# Altium footprint library DXPpcb.PCBLIB: 575 footprints (part 8 of 36)
Each footprint in its own frame and in the unit in brackets; x right, y up, seen from the top. Pads: shape width x height; smd on the part's side, far side on the other; paste and mask are expansions set on the pad; w line width, h text height; cw(c..) or ccw(c..) is an arc to the next point about the centre after c.
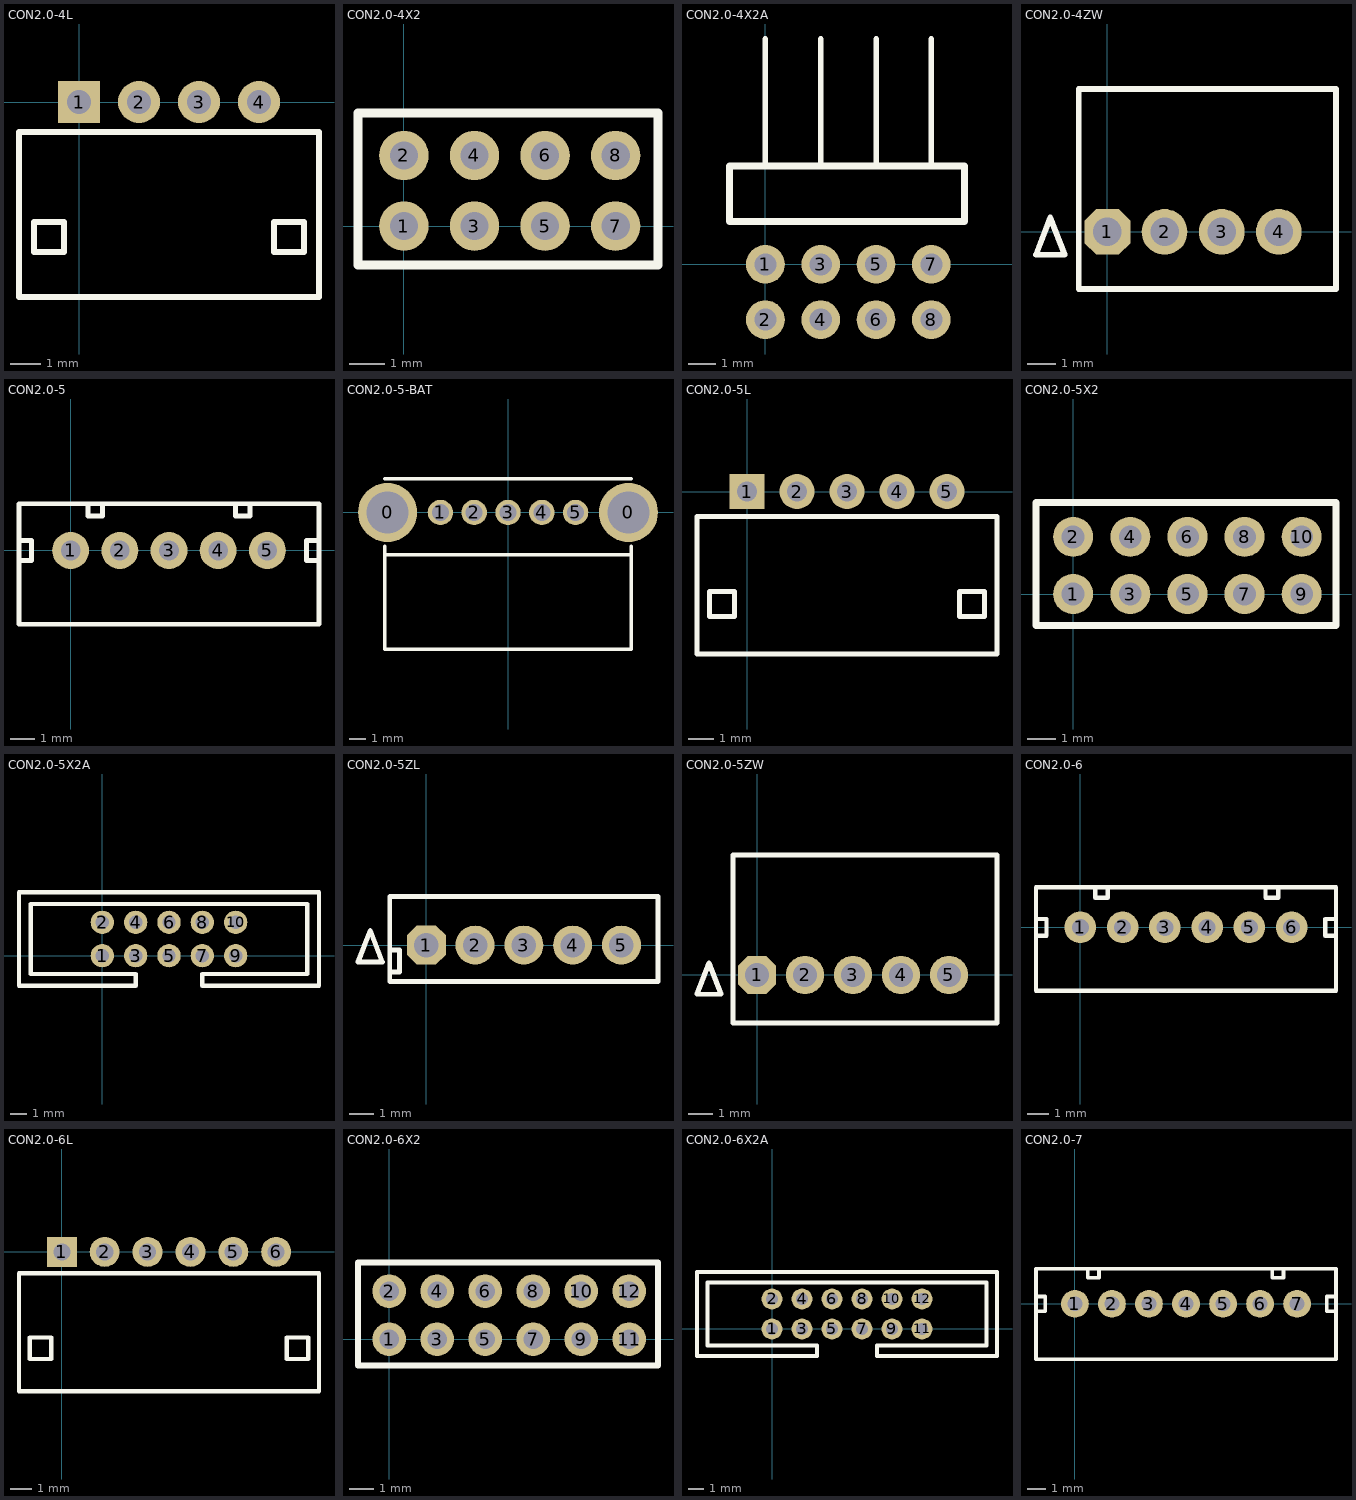
[diagram p7: the footprints below, top view; thin cyan lines are the x and y axes]

## CON2.0-4L [mm]
pads (4):
  rect 1.4x1.4 hole 0.8: 1(0,0)
  round 1.4 hole 0.8: 2(2,0) 3(4,0) 4(6,0)
TopOverlay:
  lines w0.2: -2,-6.5 8,-6.5 8,-1 -2,-1 -2,-3.5 -2,-6.5 ; -1.5,-5 -1.5,-4 -0.5,-4 -0.5,-5 -1.5,-5 ; 6.5,-5 7.5,-5 7.5,-4 6.5,-4 6.5,-5

## CON2.0-4X2 [mm]
pads (8):
  round 1.4 hole 0.8: 1(0,0) 2(0,2) 3(2,0) 4(2,2) 5(4,0) 6(4,2) 7(6,0) 8(6,2)
TopOverlay:
  lines w0.254: -1.3,-1.1 7.2,-1.1 7.2,3.2 -1.3,3.2 -1.3,-1.1

## CON2.0-4X2A [mm]
pads (8):
  round 1.4 hole 0.8: 1(0,0) 2(0,-2) 3(2,0) 4(2,-2) 5(4,0) 6(4,-2) 7(6,0) 8(6,-2)
TopOverlay:
  lines w0.2: 0,3.55 0,8.15 ; 2,3.55 2,8.15 ; 4,3.55 4,8.15 ; 6,3.55 6,8.15
  lines w0.254: -1.3,1.55 7.2,1.55 7.2,3.55 -1.3,3.55 -1.3,1.55

## CON2.0-4ZW [mm]
pads (4):
  oct 1.6x1.6 hole 1: 1(0,0)
  round 1.6 hole 1: 2(2,0) 3(4,0) 4(6,0)
TopOverlay:
  lines w0.2: -2.5,-0.8 -2,0.5 -1.5,-0.8 -2.5,-0.8 ; -1,-2 -1,5 8,5 8,-2 -1,-2

## CON2.0-5 [mm]
pads (5):
  round 1.5 hole 0.8: 1(0,0) 2(2,0) 3(4,0) 4(6,0) 5(8,0)
TopOverlay:
  lines w0.2: -2.1,-0.4 -1.6,-0.4 -1.6,0.4 -2.1,0.4 ; 0.7,1.9 0.7,1.4 1.3,1.4 1.3,1.9 ; 6.7,1.9 6.7,1.4 7.3,1.4 7.3,1.9 ; 10.1,-0.4 9.6,-0.4 9.6,0.4 10.1,0.4 ; -2.1,-3 -2.1,1.9 10.1,1.9 10.1,-3 -2.1,-3

## CON2.0-5-BAT [mm]
pads (7):
  round 3.5 hole 2.5: 0(-7.125,0) 0(7.125,0)
  round 1.5 hole 1: 1(-4,0) 2(-2,0) 3(0,0) 4(2,0) 5(4,0)
TopOverlay:
  lines w0.2: -7.3,-2.5 7.3,-2.5 ; -7.3,-2 -7.3,-8.1 7.3,-8.1 7.3,-2 ; -7.3,2 7.3,2

## CON2.0-5L [mm]
pads (5):
  rect 1.4x1.4 hole 0.8: 1(0,0)
  round 1.4 hole 0.8: 2(2,0) 3(4,0) 4(6,0) 5(8,0)
TopOverlay:
  lines w0.2: -2,-6.5 10,-6.5 10,-1 -2,-1 -2,-2.8 -2,-6.5 ; -1.5,-5 -0.5,-5 -0.5,-4 -1.5,-4 -1.5,-5 ; 8.5,-5 9.5,-5 9.5,-4 8.5,-4 8.5,-5

## CON2.0-5X2 [mm]
pads (10):
  round 1.4 hole 0.8: 1(0,0) 2(0,2) 3(2,0) 4(2,2) 5(4,0) 6(4,2) 7(6,0) 8(6,2) 9(8,0) 10(8,2)
TopOverlay:
  lines w0.254: -1.3,-1.1 9.2,-1.1 9.2,3.2 -1.3,3.2 -1.3,-1.1

## CON2.0-5X2A [mm]
pads (10):
  round 1.4 hole 0.8: 1(0,0) 2(0,2) 3(2,0) 4(2,2) 5(4,0) 6(4,2) 7(6,0) 8(6,2) 9(8,0) 10(8,2)
TopOverlay:
  lines w0.254: -5,-1.8 2,-1.8 2,-1.1 -4.3,-1.1 -4.3,3.1 12.3,3.1 12.3,-1.1 6,-1.1 6,-1.8 13,-1.8 13,3.8 -5,3.8 -5,-1.8

## CON2.0-5ZL [mm]
pads (5):
  oct 1.6x1.6 hole 1: 1(0,0)
  round 1.6 hole 1: 2(2,0) 3(4,0) 4(6,0) 5(8,0)
TopOverlay:
  lines w0.2: -1.5,-1.1 -1.1,-1.1 -1.1,-0.2 -1.5,-0.2 ; -2.8,-0.7 -1.8,-0.7 -2.3,0.6 -2.8,-0.7 ; -1.5,-1.5 9.5,-1.5 9.5,2 -1.5,2 -1.5,-1.5

## CON2.0-5ZW [mm]
pads (5):
  oct 1.6x1.6 hole 1: 1(0,0)
  round 1.6 hole 1: 2(2,0) 3(4,0) 4(6,0) 5(8,0)
TopOverlay:
  lines w0.2: -2.5,-0.8 -1.5,-0.8 -2,0.5 -2.5,-0.8 ; -1,-2 10,-2 10,5 -1,5 -1,-2

## CON2.0-6 [mm]
pads (6):
  round 1.5 hole 0.8: 1(0,0) 2(2,0) 3(4,0) 4(6,0) 5(8,0) 6(10,0)
TopOverlay:
  lines w0.2: -2.1,-0.4 -1.6,-0.4 -1.6,0.4 -2.1,0.4 ; 0.7,1.9 0.7,1.4 1.3,1.4 1.3,1.9 ; 8.764,1.9 8.764,1.4 9.364,1.4 9.364,1.9 ; 12.096,-3 12.096,1.9 ; 12.096,-0.4 11.596,-0.4 11.596,0.4 12.096,0.4 ; 12.1,-3 -2.1,-3 -2.1,1.9 12.1,1.9

## CON2.0-6L [mm]
pads (6):
  rect 1.4x1.4 hole 0.8: 1(0,0)
  round 1.4 hole 0.8: 2(2,0) 3(4,0) 4(6,0) 5(8,0) 6(10,0)
TopOverlay:
  lines w0.2: -2,-6.5 -2,-3.5 -2,-1 12,-1 12,-6.5 -2,-6.5 ; -1.5,-5 -0.5,-5 -0.5,-4 -1.5,-4 -1.5,-5 ; 10.5,-5 11.5,-5 11.5,-4 10.5,-4 10.5,-5

## CON2.0-6X2 [mm]
pads (12):
  round 1.4 hole 0.8: 1(0,0) 2(0,2) 3(2,0) 4(2,2) 5(4,0) 6(4,2) 7(6,0) 8(6,2) 9(8,0) 10(8,2) 11(10,0) 12(10,2)
TopOverlay:
  lines w0.254: -1.3,-1.1 11.2,-1.1 11.2,3.2 -1.3,3.2 -1.3,-1.1

## CON2.0-6X2A [mm]
pads (12):
  round 1.4 hole 0.8: 1(0,0) 2(0,2) 3(2,0) 4(2,2) 5(4,0) 6(4,2) 7(6,0) 8(6,2) 9(8,0) 10(8,2) 11(10,0) 12(10,2)
TopOverlay:
  lines w0.254: -5,-1.8 3,-1.8 3,-1.1 -4.3,-1.1 -4.3,3.1 14.3,3.1 14.3,-1.1 7,-1.1 7,-1.8 15,-1.8 15,3.8 -5,3.8 -5,-1.8

## CON2.0-7 [mm]
pads (7):
  round 1.5 hole 0.8: 1(0,0) 2(2,0) 3(4,0) 4(6,0) 5(8,0) 6(10,0) 7(12,0)
TopOverlay:
  lines w0.2: -2.1,-0.4 -1.6,-0.4 -1.6,0.4 -2.1,0.4 ; 0.7,1.9 0.7,1.4 1.3,1.4 1.3,1.9 ; 10.664,1.9 10.664,1.4 11.264,1.4 11.264,1.9 ; 14.1,-0.4 13.6,-0.4 13.6,0.4 14.1,0.4 ; -2.1,-3 14.1,-3 14.1,1.9 -2.1,1.9 -2.1,-3